# Altium footprint library BGA_Sq_50P.PcbLib: 17 footprints (part 2 of 2)
Each footprint in its own frame and in the unit in brackets; x right, y up, seen from the top. Pads: shape width x height; smd on the part's side, far side on the other; paste and mask are expansions set on the pad; w line width, h text height; cw(c..) or ccw(c..) is an arc to the next point about the centre after c.
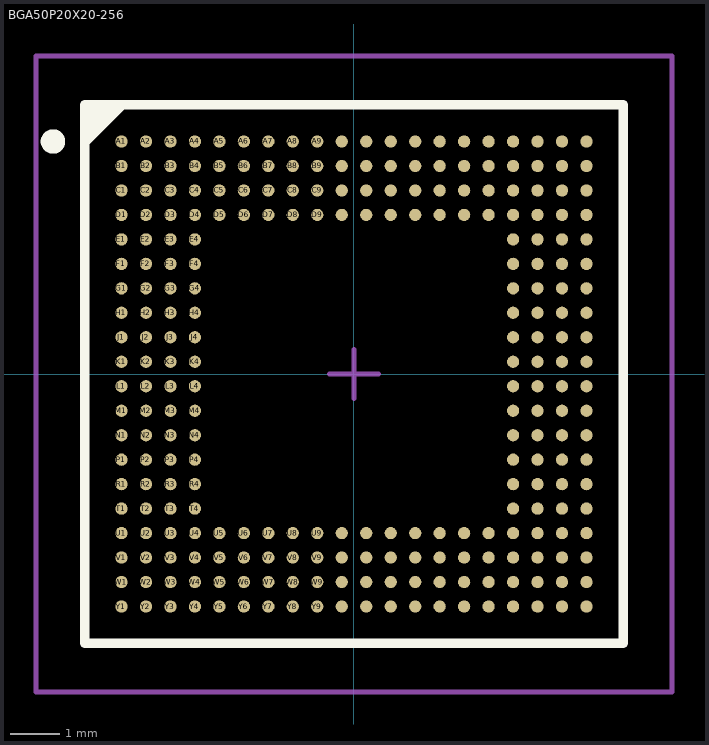
[diagram p1: the footprint, top view; thin cyan lines are the x and y axes]

## BGA50P20X20-256 [mm] "BGA, 256-Leads, Body 11x11mm, Pitch 0.5mm"
height 1.2
pads (256):
  round 0.25 smd: A1(-4.75,4.75) A2(-4.25,4.75) A3(-3.75,4.75) A4(-3.25,4.75) A5(-2.75,4.75) A6(-2.25,4.75) A7(-1.75,4.75) A8(-1.25,4.75) A9(-0.75,4.75) A10(-0.25,4.75) A11(0.25,4.75) A12(0.75,4.75) A13(1.25,4.75) A14(1.75,4.75) A15(2.25,4.75) A16(2.75,4.75) A17(3.25,4.75) A18(3.75,4.75) A19(4.25,4.75) A20(4.75,4.75) B1(-4.75,4.25) B2(-4.25,4.25) B3(-3.75,4.25) B4(-3.25,4.25) B5(-2.75,4.25) B6(-2.25,4.25) B7(-1.75,4.25) B8(-1.25,4.25) B9(-0.75,4.25) B10(-0.25,4.25) B11(0.25,4.25) B12(0.75,4.25) B13(1.25,4.25) B14(1.75,4.25) B15(2.25,4.25) B16(2.75,4.25) B17(3.25,4.25) B18(3.75,4.25) B19(4.25,4.25) B20(4.75,4.25) C1(-4.75,3.75) C2(-4.25,3.75) C3(-3.75,3.75) C4(-3.25,3.75) C5(-2.75,3.75) C6(-2.25,3.75) C7(-1.75,3.75) C8(-1.25,3.75) C9(-0.75,3.75) C10(-0.25,3.75) C11(0.25,3.75) C12(0.75,3.75) C13(1.25,3.75) C14(1.75,3.75) C15(2.25,3.75) C16(2.75,3.75) C17(3.25,3.75) C18(3.75,3.75) C19(4.25,3.75) C20(4.75,3.75) D1(-4.75,3.25) D2(-4.25,3.25) D3(-3.75,3.25) D4(-3.25,3.25) D5(-2.75,3.25) D6(-2.25,3.25) D7(-1.75,3.25) D8(-1.25,3.25) D9(-0.75,3.25) D10(-0.25,3.25) D11(0.25,3.25) D12(0.75,3.25) D13(1.25,3.25) D14(1.75,3.25) D15(2.25,3.25) D16(2.75,3.25) D17(3.25,3.25) D18(3.75,3.25) D19(4.25,3.25) D20(4.75,3.25) E1(-4.75,2.75) E2(-4.25,2.75) E3(-3.75,2.75) E4(-3.25,2.75) E17(3.25,2.75) E18(3.75,2.75) E19(4.25,2.75) E20(4.75,2.75) F1(-4.75,2.25) F2(-4.25,2.25) F3(-3.75,2.25) F4(-3.25,2.25) F17(3.25,2.25) F18(3.75,2.25) F19(4.25,2.25) F20(4.75,2.25) G1(-4.75,1.75) G2(-4.25,1.75) G3(-3.75,1.75) G4(-3.25,1.75) G17(3.25,1.75) G18(3.75,1.75) G19(4.25,1.75) G20(4.75,1.75) H1(-4.75,1.25) H2(-4.25,1.25) H3(-3.75,1.25) H4(-3.25,1.25) H17(3.25,1.25) H18(3.75,1.25) H19(4.25,1.25) H20(4.75,1.25) J1(-4.75,0.75) J2(-4.25,0.75) J3(-3.75,0.75) J4(-3.25,0.75) J17(3.25,0.75) J18(3.75,0.75) J19(4.25,0.75) J20(4.75,0.75) K1(-4.75,0.25) K2(-4.25,0.25) K3(-3.75,0.25) K4(-3.25,0.25) K17(3.25,0.25) K18(3.75,0.25) K19(4.25,0.25) K20(4.75,0.25) L1(-4.75,-0.25) L2(-4.25,-0.25) L3(-3.75,-0.25) L4(-3.25,-0.25) L17(3.25,-0.25) L18(3.75,-0.25) L19(4.25,-0.25) L20(4.75,-0.25) M1(-4.75,-0.75) M2(-4.25,-0.75) M3(-3.75,-0.75) M4(-3.25,-0.75) M17(3.25,-0.75) M18(3.75,-0.75) M19(4.25,-0.75) M20(4.75,-0.75) N1(-4.75,-1.25) N2(-4.25,-1.25) N3(-3.75,-1.25) N4(-3.25,-1.25) N17(3.25,-1.25) N18(3.75,-1.25) N19(4.25,-1.25) N20(4.75,-1.25) P1(-4.75,-1.75) P2(-4.25,-1.75) P3(-3.75,-1.75) P4(-3.25,-1.75) P17(3.25,-1.75) P18(3.75,-1.75) P19(4.25,-1.75) P20(4.75,-1.75) R1(-4.75,-2.25) R2(-4.25,-2.25) R3(-3.75,-2.25) R4(-3.25,-2.25) R17(3.25,-2.25) R18(3.75,-2.25) R19(4.25,-2.25) R20(4.75,-2.25) T1(-4.75,-2.75) T2(-4.25,-2.75) T3(-3.75,-2.75) T4(-3.25,-2.75) T17(3.25,-2.75) T18(3.75,-2.75) T19(4.25,-2.75) T20(4.75,-2.75) U1(-4.75,-3.25) U2(-4.25,-3.25) U3(-3.75,-3.25) U4(-3.25,-3.25) U5(-2.75,-3.25) U6(-2.25,-3.25) U7(-1.75,-3.25) U8(-1.25,-3.25) U9(-0.75,-3.25) U10(-0.25,-3.25) U11(0.25,-3.25) U12(0.75,-3.25) U13(1.25,-3.25) U14(1.75,-3.25) U15(2.25,-3.25) U16(2.75,-3.25) U17(3.25,-3.25) U18(3.75,-3.25) U19(4.25,-3.25) U20(4.75,-3.25) V1(-4.75,-3.75) V2(-4.25,-3.75) V3(-3.75,-3.75) V4(-3.25,-3.75) V5(-2.75,-3.75) V6(-2.25,-3.75) V7(-1.75,-3.75) V8(-1.25,-3.75) V9(-0.75,-3.75) V10(-0.25,-3.75) V11(0.25,-3.75) V12(0.75,-3.75) V13(1.25,-3.75) V14(1.75,-3.75) V15(2.25,-3.75) V16(2.75,-3.75) V17(3.25,-3.75) V18(3.75,-3.75) V19(4.25,-3.75) V20(4.75,-3.75) W1(-4.75,-4.25) W2(-4.25,-4.25) W3(-3.75,-4.25) W4(-3.25,-4.25) W5(-2.75,-4.25) W6(-2.25,-4.25) W7(-1.75,-4.25) W8(-1.25,-4.25) W9(-0.75,-4.25) W10(-0.25,-4.25) W11(0.25,-4.25) W12(0.75,-4.25) W13(1.25,-4.25) W14(1.75,-4.25) W15(2.25,-4.25) W16(2.75,-4.25) W17(3.25,-4.25) W18(3.75,-4.25) W19(4.25,-4.25) W20(4.75,-4.25) Y1(-4.75,-4.75) Y2(-4.25,-4.75) Y3(-3.75,-4.75) Y4(-3.25,-4.75) Y5(-2.75,-4.75) Y6(-2.25,-4.75) Y7(-1.75,-4.75) Y8(-1.25,-4.75) Y9(-0.75,-4.75) Y10(-0.25,-4.75) Y11(0.25,-4.75) Y12(0.75,-4.75) Y13(1.25,-4.75) Y14(1.75,-4.75) Y15(2.25,-4.75) Y16(2.75,-4.75) Y17(3.25,-4.75) Y18(3.75,-4.75) Y19(4.25,-4.75) Y20(4.75,-4.75)
Top Overlay:
  circle w0.25: c-6.15,4.75 r0.125
  region: -4.742,5.5 -5.5,4.742 -5.5,5.5
  lines w0.2: -5.5,4.742 -4.742,5.5 ; -5.5,-5.5 -5.5,5.5 5.5,5.5 5.5,-5.5 -5.5,-5.5
Mechanical 13:
  lines w0.1: -5.5,-5.5 -5.5,5.5 5.5,5.5 5.5,-5.5 -5.5,-5.5
Mechanical 15:
  lines w0.1: -0.5,0 0.5,0 ; 0,-0.5 0,0.5 ; -6.5,-6.5 -6.5,6.5 6.5,6.5 6.5,-6.5 -6.5,-6.5
3D body: height 0, standoff 0, extent -5.499,-5.499 5.499,5.499